# EAGLE library part APA102_B (library dadamachines)
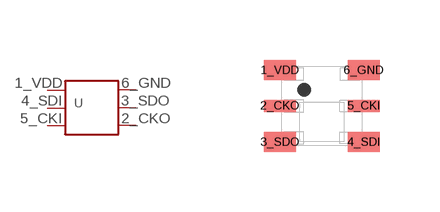
[diagram p8: symbol with the pads of APA102-2020_B; footprint APA102-2020_B]

Designator prefix -

## APA102_B  [APA102-2020_B]
1_VDD  VCC  pwr
2_CKO  CKO  out
3_SDO  SDO  out
4_SDI  SDI  in
5_CKI  CKI  in
6_GND  GND  pwr

## Footprint APA102-2020_B (pad centres in mm)
smd 0.8 x 0.5: 1_VDD -1.05,0.9; 3_SDO -1.05,-0.9; 4_SDI 1.05,-0.9; 6_GND 1.05,0.9
smd 0.8 x 0.3: 2_CKO -1.05,0; 5_CKI 1.05,0